# Altium footprint library PCB2.PcbLib: 22 footprints (part 2 of 2)
Each footprint in its own frame and in the unit in brackets; x right, y up, seen from the top. Pads: shape width x height; smd on the part's side, far side on the other; paste and mask are expansions set on the pad; w line width, h text height; cw(c..) or ccw(c..) is an arc to the next point about the centre after c.
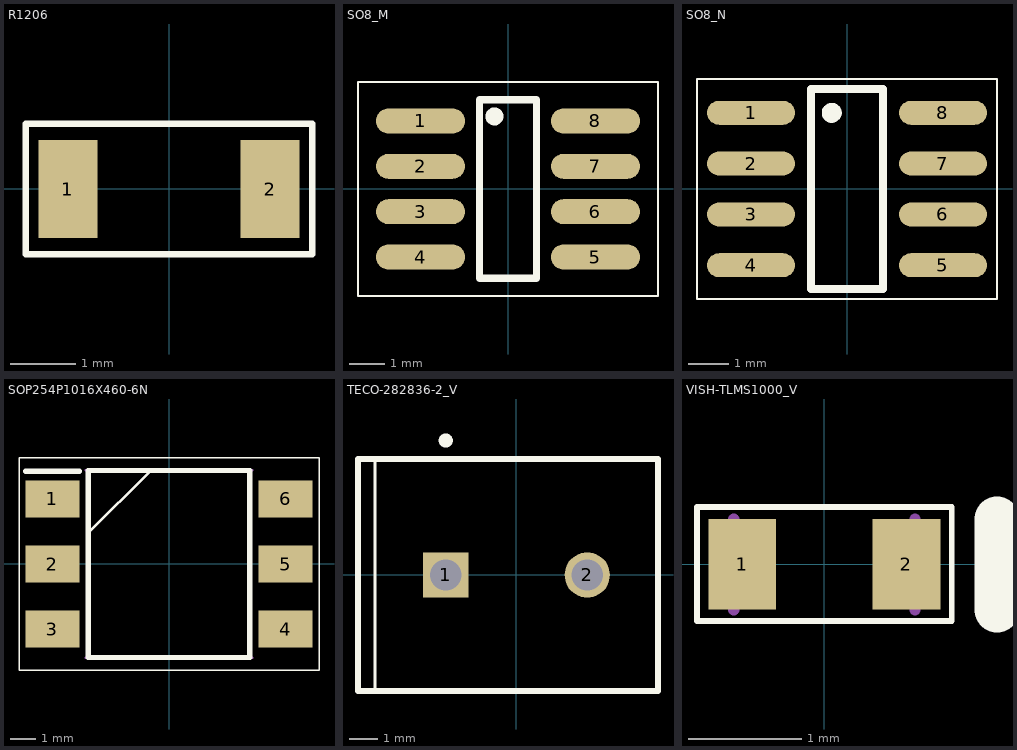
[diagram p1: the footprints below, top view; thin cyan lines are the x and y axes]

## R1206 [mm]
height 0.55
pads (2):
  rect 0.9x1.5 smd: 1(-1.55,0) 2(1.55,0)
Top Overlay:
  lines w0.1: -2.2,-1 2.2,-1 2.2,1 -2.2,1 -2.2,-1
3D body "R_1206.step": height 0.6, standoff 0, extent -1.6,-0.8 1.6,0.8

## SO8_M [mm] "SOIC, 8-Leads, Body 4.9x3.9mm, Pitch 1.27mm, IPC Low Density"
height 1.75
pads (8):
  oval 2.5x0.7 smd: 1(-2.45,1.905) 2(-2.45,0.635) 3(-2.45,-0.635) 4(-2.45,-1.905) 5(2.45,-1.905) 6(2.45,-0.635) 7(2.45,0.635) 8(2.45,1.905)
Top Overlay:
  circle w0.25: c-0.381,2.032 r0.125
  lines w0.05: -4.2,-3 4.2,-3 4.2,3 -4.2,3 -4.2,-3
  lines w0.2: -0.8,-2.5 -0.8,2.5 0.8,2.5 0.8,-2.5 -0.8,-2.5
3D body: height 1.75, standoff 0.1, extent -2,-2.5 2,2.5

## SO8_N [mm] "SOIC, 8-Leads, Body 4.9x3.9mm, Pitch 1.27mm, IPC Medium Density"
height 1.75
pads (8):
  oval 2.2x0.6 smd: 1(-2.4,1.905) 2(-2.4,0.635) 3(-2.4,-0.635) 4(-2.4,-1.905) 5(2.4,-1.905) 6(2.4,-0.635) 7(2.4,0.635) 8(2.4,1.905)
Top Overlay:
  circle w0.25: c-0.381,1.905 r0.125
  lines w0.05: -3.75,-2.75 -3.75,2.75 3.75,2.75 3.75,-2.75 -3.75,-2.75
  lines w0.2: -0.9,-2.5 -0.9,2.5 0.9,2.5 0.9,-2.5 -0.9,-2.5
3D body: height 1.75, standoff 0.1, extent -2,-2.5 2,2.5

## SOP254P1016X460-6N [mm]
pads (6):
  rect 2.1x1.45 smd: 1(-4.55,2.54) 2(-4.55,0) 3(-4.55,-2.54) 4(4.55,-2.54) 5(4.55,0) 6(4.55,2.54)
Top Overlay:
  lines w0.05: -5.85,-4.15 -5.85,4.15 5.85,4.15 5.85,-4.15 -5.85,-4.15
  lines w0.1: -3.196,1.164 -0.71,3.65
  lines w0.2: -5.6,3.615 -3.5,3.615 ; -3.15,-3.65 -3.15,3.65 3.15,3.65 3.15,-3.65 -3.15,-3.65
Mechanical 15:
  lines w0.1: -3.25,-3.65 3.25,-3.65 ; -3.25,3.65 3.25,3.65
3D body "CNY17-3-300E.stp": height 4.6, standoff 0, extent -5.08,-3.65 5.08,3.65

## TECO-282836-2_V [mm] "Female Header, Pitch 5mm, 1 x 2 Position, Height 10mm"
height 10
pads (2):
  rect 1.6x1.6 hole 1.1: 1(-2.5,0)
  round 1.6 hole 1.1: 2(2.5,0)
Top Overlay:
  circle w0.25: c-2.5,4.75 r0.125
  lines w0.1: -5,-4.1 -5,4.1
  lines w0.2: -5.6,-4.1 5,-4.1 5,4.1 -5.6,4.1 -5.6,-4.1
Mechanical 13:
  lines w0.1: -5,-4.1 5,-4.1 5,4.1 -5,4.1
3D body "c-282836-2-h-3d.stp": height 10, standoff -3.5, extent -5.6,-4.1 5,4.1

## VISH-TLMS1000_V [mm] "SMD, 2-Leads, Body 0.8x1.6mm"
height 0.65
pads (2):
  rect 0.6x0.8 smd: 1(-0.725,0) 2(0.725,0)
Top Overlay:
  lines w0.05: -1.125,0.5 -1.125,-0.5 1.125,-0.5 1.125,0.5 ; -1.125,0.508 1.125,0.508
  lines w0.4: 1.525,-0.4 1.525,0.4
Mechanical 13:
  lines w0.1: -0.8,-0.4 -0.8,0.4 ; 0.8,-0.4 0.8,0.4
3D body: height 0.65, standoff 0, extent -0.8,-0.4 0.8,0.4